# Altium footprint library SAMTEC_SSW-102-01-X-S.PcbLib: 1 footprints
Each footprint in its own frame and in the unit in brackets; x right, y up, seen from the top. Pads: shape width x height; smd on the part's side, far side on the other; paste and mask are expansions set on the pad; w line width, h text height; cw(c..) or ccw(c..) is an arc to the next point about the centre after c.
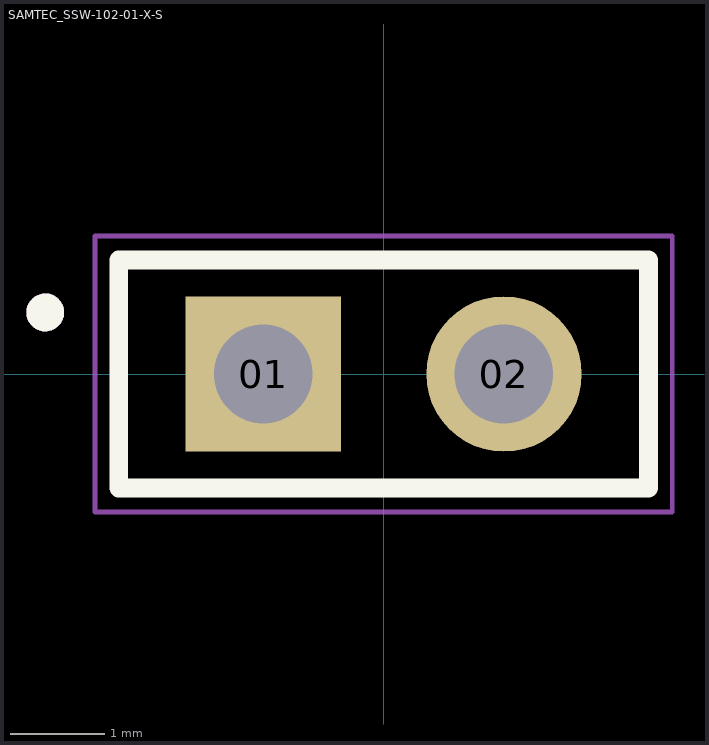
[diagram p0: the footprint, top view; thin cyan lines are the x and y axes]

## SAMTEC_SSW-102-01-X-S [mm]
pads (2):
  rect 1.64x1.64 hole 1.04: 01(-1.27,0)
  round 1.64 hole 1.04: 02(1.27,0)
Top Overlay:
  circle w0.2: c-3.57,0.65 r0.1
  lines w0.2: -2.795,-1.205 2.795,-1.205 2.795,1.205 -2.795,1.205 -2.795,-1.205
Mechanical 13:
  circle w0.2: c-3.57,0.65 r0.1
  lines w0.1: -2.795,-1.205 2.795,-1.205 2.795,1.205 -2.795,1.205 -2.795,-1.205
Mechanical 15:
  lines w0.05: -3.045,-1.455 3.045,-1.455 3.045,1.455 -3.045,1.455 -3.045,-1.455